# Altium footprint library PCB - LEADLESS - SON - MACRONIX USON-8L 2X3X0.PcbLib: 1 footprints
Each footprint in its own frame and in the unit in brackets; x right, y up, seen from the top. Pads: shape width x height; smd on the part's side, far side on the other; paste and mask are expansions set on the pad; w line width, h text height; cw(c..) or ccw(c..) is an arc to the next point about the centre after c.
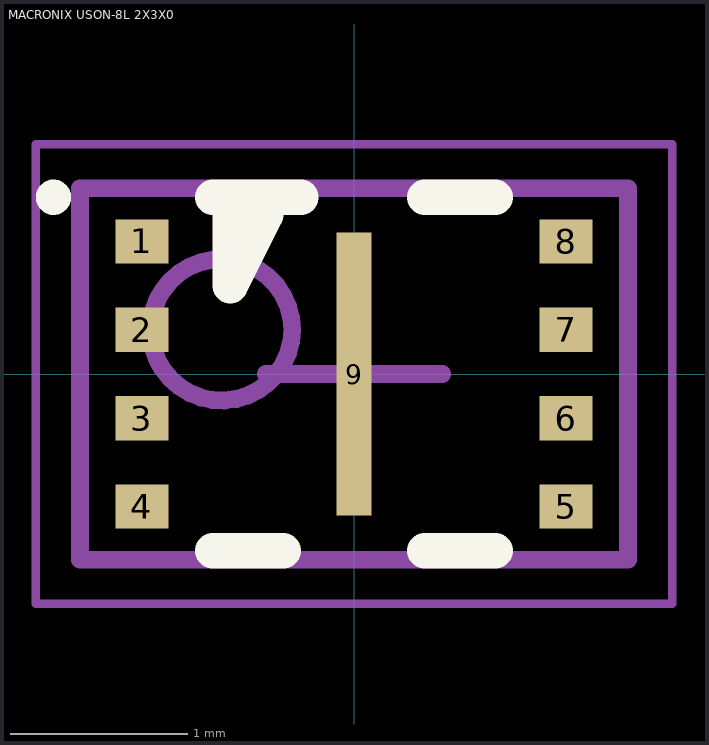
[diagram p0: the footprint, top view; thin cyan lines are the x and y axes]

## MACRONIX USON-8L 2X3X0 [mm] "USON, 8-Leads, Body 2.00x3.00mm, Pitch 0.50mm, Thermal Pad 1.60x0.20mm"
height 0.6
pads (9):
  rect 0.3x0.25 smd: 1(-1.2,0.75) 2(-1.2,0.25) 3(-1.2,-0.25) 4(-1.2,-0.75) 5(1.2,-0.75) 6(1.2,-0.25) 7(1.2,0.25) 8(1.2,0.75)
  rect 0.2x1.6 smd: 9(0,0)
Top Overlay:
  circle w0.1: c-1.7,1 r0.05
  lines w0.2: -0.8,-1 -0.4,-1 ; -0.8,1 -0.3,1 ; 0.4,-1 0.8,-1 ; 0.4,1 0.8,1 ; -0.7,0.5 -0.5,0.9 -0.7,0.9 -0.7,0.5
Mechanical 13:
  circle w0.1: c-0.75,0.25 r0.4
  lines w0.1: -1.55,-1.05 -1.55,1.05 1.55,1.05 1.55,-1.05 -1.55,-1.05
Mechanical 15:
  lines w0.05: -1.8,-1.3 -1.8,1.3 1.8,1.3 1.8,-1.3 -1.8,-1.3
  lines w0.1: -0.5,0 0.5,0 ; 0,-0.5 0,0.5
3D body "MACRONIX USON-8L 2X3X0.6MM.step": height 0.6, standoff 0, extent -1.551,-1.05 1.551,1.05